# Altium footprint library WURTH_744143100.PcbLib: 1 footprints
Each footprint in its own frame and in the unit in brackets; x right, y up, seen from the top. Pads: shape width x height; smd on the part's side, far side on the other; paste and mask are expansions set on the pad; w line width, h text height; cw(c..) or ccw(c..) is an arc to the next point about the centre after c.
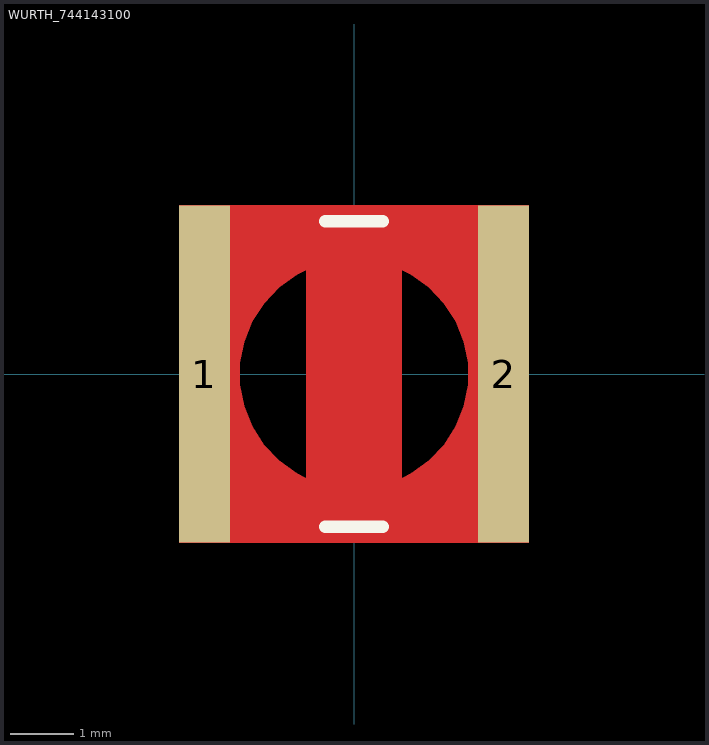
[diagram p0: the footprint, top view; thin cyan lines are the x and y axes]

## WURTH_744143100 [mm]
pads (2):
  rect 0.8x5.3 smd: 1(-2.35,0) 2(2.35,0)
Top Layer:
  pour cut-out: -0.75,2.65 -0.75,-2.65 0.75,-2.65 0.75,2.65
  region: 0.75,-2.65 0.75,-1.636 0.902,-1.558 1.181,-1.359 1.417,-1.111 1.601,-0.822 1.728,-0.504 1.792,-0.168 1.792,0.174 1.726,0.51 1.599,0.827 1.413,1.115 1.176,1.362 0.897,1.56 0.745,1.639 0.75,1.639 0.75,2.65 2.75,2.65 2.75,-2.65
  region: -2.75,-2.65 -2.75,2.65 -0.75,2.65 -0.75,1.639 -0.745,1.639 -0.897,1.56 -1.176,1.362 -1.413,1.115 -1.599,0.827 -1.726,0.51 -1.792,0.174 -1.792,-0.168 -1.728,-0.504 -1.601,-0.822 -1.417,-1.111 -1.181,-1.359 -0.902,-1.558 -0.75,-1.636 -0.75,-2.65
Top Overlay:
  lines w0.2: -0.45,-2.4 0.45,-2.4 ; -0.45,2.4 0.45,2.4
Top Paste:
  region: -2.75,-2.65 -2.75,2.65 -0.75,2.65 -0.75,1.582 -0.895,1.505 -1.161,1.311 -1.385,1.071 -1.561,0.793 -1.682,0.488 -1.743,0.165 -1.743,-0.164 -1.682,-0.487 -1.561,-0.792 -1.385,-1.07 -1.161,-1.31 -0.895,-1.504 -0.75,-1.581 -0.75,-2.65
  region: 2.75,-2.65 2.75,2.65 0.75,2.65 0.75,1.582 0.895,1.505 1.161,1.311 1.385,1.071 1.561,0.793 1.682,0.488 1.743,0.165 1.743,-0.164 1.682,-0.487 1.561,-0.792 1.385,-1.07 1.161,-1.31 0.895,-1.504 0.75,-1.581 0.75,-2.65
Top Solder:
  region: 2.8,-2.75 2.8,2.75 0.65,2.75 0.65,1.625 0.808,1.552 1.098,1.363 1.345,1.12 1.54,0.833 1.674,0.513 1.742,0.173 1.742,-0.174 1.674,-0.514 1.54,-0.834 1.346,-1.121 1.098,-1.364 0.808,-1.553 0.65,-1.626 0.65,-2.75
  region: -2.8,-2.75 -2.8,2.75 -0.65,2.75 -0.65,1.626 -0.808,1.553 -1.098,1.364 -1.345,1.121 -1.54,0.834 -1.674,0.514 -1.742,0.174 -1.742,-0.173 -1.674,-0.513 -1.54,-0.833 -1.345,-1.12 -1.098,-1.363 -0.808,-1.553 -0.65,-1.625 -0.65,-2.75
3D body "744043003_WE-TPC-4828.stp": height 2.78, standoff -0.02, extent -2.4,-2.4 2.4,2.4